# Altium schematic symbol library ESP32-DEVKIT-V1.SchLib: 1 symbol
Pins are listed as number, name and electrical type; pins without a type are passive.

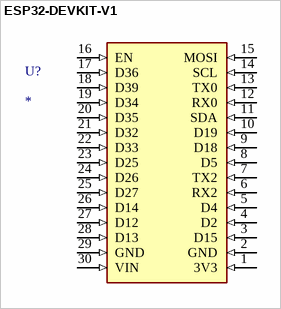
[diagram p0: symbol ESP32-DEVKIT-V1]

## ESP32-DEVKIT-V1
designator U?
Dual core, Wi-Fi: 2.4 GHz up to 150 Mbits/s,BLE (Bluetooth Low Energy) and legacy Bluetooth, 32 bits, Up to 240 MHz; MF: Do it; MP: ESP32-DEVKIT-V1; SnapEDA_Link: https://www.snapeda.com/parts/ESP32-DEVKIT-V1/Do+it/view-part/?ref=snap; Package: None; Value: *; Check_prices: https://www.snapeda.com/parts/ESP32-DEVKIT-V1/Do+it/view-part/?ref=eda
footprint MODULE_ESP32_DEVKIT_V1
pins: 1 3V3 (in), 2 GND (in), 3 D15 (in), 4 D2 (in), 5 D4 (in), 6 RX2 (in), 7 TX2 (in), 8 D5 (in), 9 D18 (in), 10 D19 (in), 11 SDA (in), 12 RX0 (in), 13 TX0 (in), 14 SCL (in), 15 MOSI (in), 16 EN (in), 17 D36 (in), 18 D39 (in), 19 D34 (in), 20 D35 (in), 21 D32 (in), 22 D33 (in), 23 D25 (in), 24 D26 (in), 25 D27 (in), 26 D14 (in), 27 D12 (in), 28 D13 (in), 29 GND (in), 30 VIN (in)